# EAGLE library part LMP7702 (library Wireless EEG UPDATED)
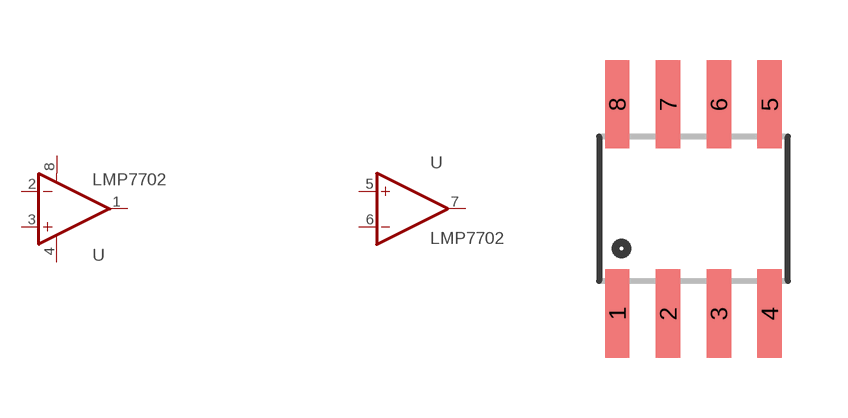
[diagram p0: symbol with the pads of SOIC8; footprint SOIC8]

Designator prefix -

## LMP7702  [SOIC8]
1  OUT  out
2  -IN  in
3  +IN  in
4  V-  pwr
5  +IN1  in
6  -IN1  in
7  OUT1  out
8  V+  pwr

## Footprint SOIC8 (pad centres in mm)
SOIC8 Surface mount component, 8 pins
smd 0.61 x 2.21: 1 -1.905,-2.616; 2 -0.635,-2.616; 3 0.635,-2.616; 4 1.905,-2.616; 5 1.905,2.616; 6 0.635,2.616; 7 -0.635,2.616; 8 -1.905,2.616